# Altium schematic symbol library Connector.SchLib: 222 symbols (part 2 of 2)
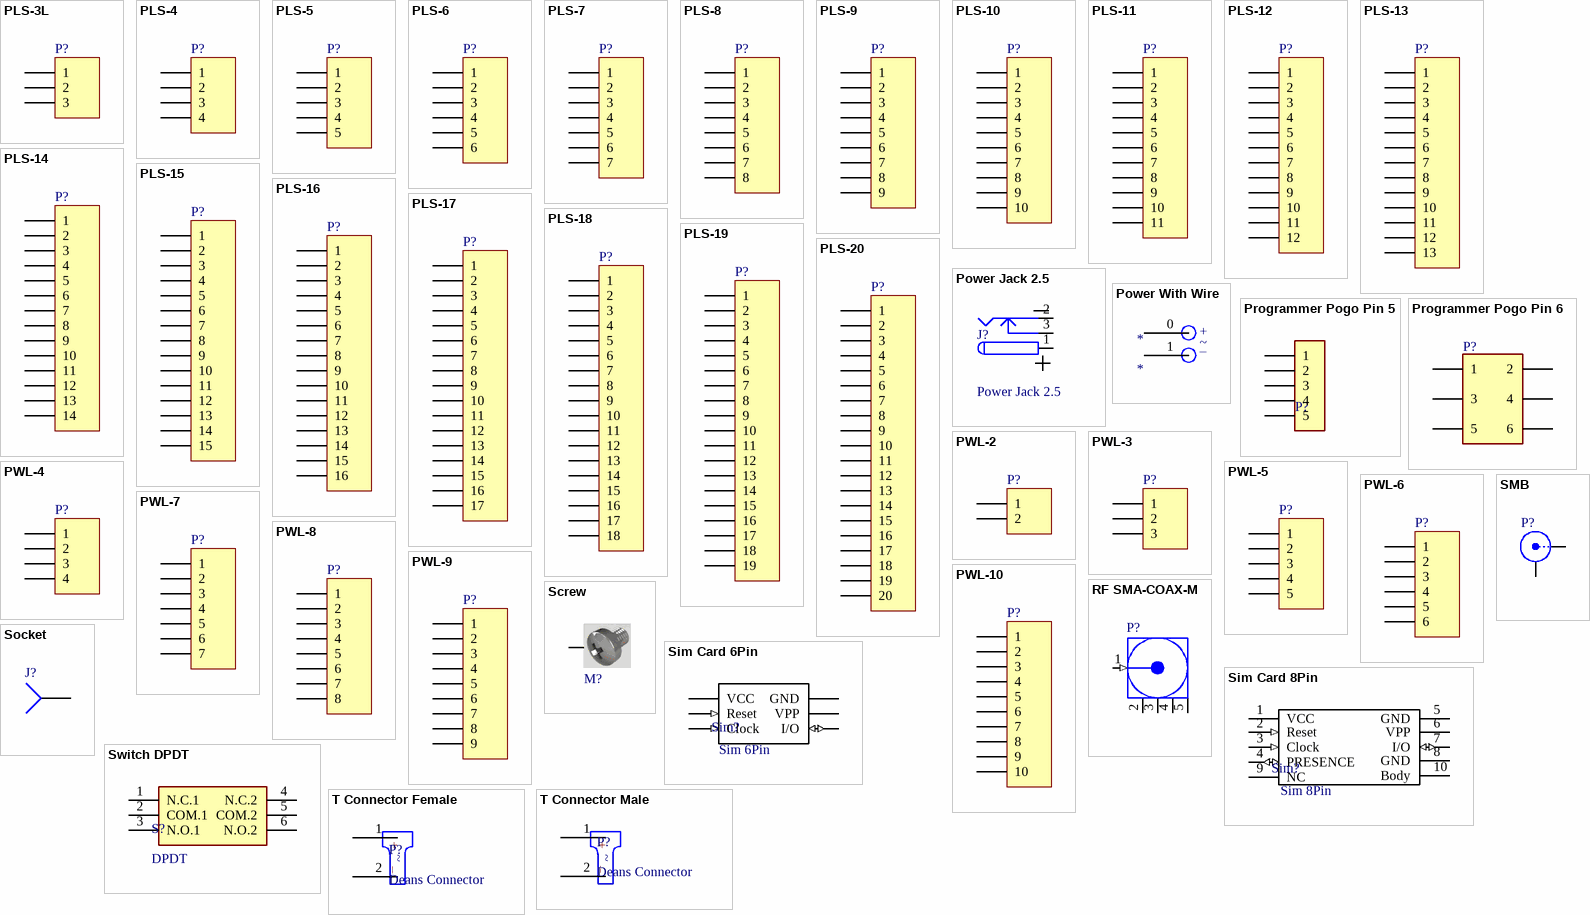
[diagram p6: symbols PLS-3L to T Connector Male]

## PLS-8
designator P?  (value not drawn)
Header, 8-Pin; LatestRevisionDate: 17-Jul-2002; LatestRevisionNote: Re-released for DXP Platform.; Publisher: Altium Limited
footprint PLS-8-3D (Connector; Header; 8 Position)
pins: 1, 2, 3, 4, 5, 6, 7, 8

## PLS-9
designator P?  (value not drawn)
Header, 9-Pin; LatestRevisionDate: 17-Jul-2002; LatestRevisionNote: Re-released for DXP Platform.; Publisher: Altium Limited
footprint PLS-9-3D (Connector; Header; 9 Position)
pins: 1, 2, 3, 4, 5, 6, 7, 8, 9

## PLS-10
designator P?  (value not drawn)
Header, 10-Pin; LatestRevisionDate: 17-Jul-2002; LatestRevisionNote: Re-released for DXP Platform.; Publisher: Altium Limited
footprint PLS-10-3D (Connector; Header; 10 Position)
pins: 1, 2, 3, 4, 5, 6, 7, 8, 9, 10

## PLS-11
designator P?  (value not drawn)
Header, 11-Pin; LatestRevisionDate: 17-Jul-2002; LatestRevisionNote: Re-released for DXP Platform.; Publisher: Altium Limited
footprint PLS-11-3D (Connector; Header; 11 Position)
pins: 1, 2, 3, 4, 5, 6, 7, 8, 9, 10, 11

## PLS-12
designator P?  (value not drawn)
Header, 12-Pin; LatestRevisionDate: 17-Jul-2002; LatestRevisionNote: Re-released for DXP Platform.; Publisher: Altium Limited
footprint PLS-12-3D (Connector; Header; 12 Position)
pins: 1, 2, 3, 4, 5, 6, 7, 8, 9, 10, 11, 12

## PLS-13
designator P?  (value not drawn)
Header, 13-Pin; LatestRevisionDate: 17-Jul-2002; LatestRevisionNote: Re-released for DXP Platform.; Publisher: Altium Limited
footprint PLS-13-3D (Connector; Header; 13 Position)
pins: 1, 2, 3, 4, 5, 6, 7, 8, 9, 10, 11, 12, 13

## PLS-14
designator P?  (value not drawn)
Header, 14-Pin; LatestRevisionDate: 17-Jul-2002; LatestRevisionNote: Re-released for DXP Platform.; Publisher: Altium Limited
footprint PLS-14-3D (Connector; Header; 14 Position)
pins: 1, 2, 3, 4, 5, 6, 7, 8, 9, 10, 11, 12, 13, 14

## PLS-15
designator P?  (value not drawn)
Header, 15-Pin; LatestRevisionDate: 17-Jul-2002; LatestRevisionNote: Re-released for DXP Platform.; Publisher: Altium Limited
footprint PLS-15-3D (Connector; Header; 15 Position)
pins: 1, 2, 3, 4, 5, 6, 7, 8, 9, 10, 11, 12, 13, 14, 15

## PLS-16
designator P?  (value not drawn)
Header, 16-Pin; LatestRevisionDate: 17-Jul-2002; LatestRevisionNote: Re-released for DXP Platform.; Publisher: Altium Limited
footprint PLS-16-3D (Connector; Header; 16 Position)
pins: 1, 2, 3, 4, 5, 6, 7, 8, 9, 10, 11, 12, 13, 14, 15, 16

## PLS-17
designator P?  (value not drawn)
Header, 17-Pin; LatestRevisionDate: 17-Jul-2002; LatestRevisionNote: Re-released for DXP Platform.; Publisher: Altium Limited
footprint PLS-17-3D (Connector; Header; 17 Position)
pins: 1, 2, 3, 4, 5, 6, 7, 8, 9, 10, 11, 12, 13, 14, 15, 16, 17

## PLS-18
designator P?  (value not drawn)
Header, 18-Pin; LatestRevisionDate: 17-Jul-2002; LatestRevisionNote: Re-released for DXP Platform.; Publisher: Altium Limited
footprint PLS-18-3D (Connector; Header; 18 Position)
pins: 1, 2, 3, 4, 5, 6, 7, 8, 9, 10, 11, 12, 13, 14, 15, 16, 17, 18

## PLS-19
designator P?  (value not drawn)
Header, 19-Pin; LatestRevisionDate: 17-Jul-2002; LatestRevisionNote: Re-released for DXP Platform.; Publisher: Altium Limited
footprint PLS-19-3D (Connector; Header; 19 Position)
pins: 1, 2, 3, 4, 5, 6, 7, 8, 9, 10, 11, 12, 13, 14, 15, 16, 17, 18, 19

## PLS-20
designator P?  (value not drawn)
Header, 20-Pin; LatestRevisionDate: 17-Jul-2002; LatestRevisionNote: Re-released for DXP Platform.; Publisher: Altium Limited
footprint PLS-20-3D (Connector; Header; 20 Position)
pins: 1, 2, 3, 4, 5, 6, 7, 8, 9, 10, 11, 12, 13, 14, 15, 16, 17, 18, 19, 20

## Power Jack 2.5
designator J?
Low Voltage Power Supply Connector; Published: 17-Dec-2003; DatasheetDocument: 09-May-2002; Publisher: Altium Limited; ComponentLink1Description: Manufacturer Link; ComponentLink1URL: http://domino.kycon.com/internet/Products.html
footprint Power Jack 2.5
pins: 1 (power), 2 (power), 3 (power)

## Power With Wire
designator *
2 Pad
footprint Power Wire Connected Big (High Current)
footprint Power Wire Connected Small (Low Current)
pins: 0, 1
text: +; ~; _

## Programmer Pogo Pin 5
designator P?  (value not drawn)  (no BOM)
footprint Programmer_pogopin-5
footprint Programmer_pogopin-5-3
pins: 1, 2, 3, 4, 5

## Programmer Pogo Pin 6
designator P?  (value not drawn)
footprint Programmer_pogopin-6
footprint Programmer_pogopin_Dip-6
pins: 1, 2, 3, 4, 5, 6

## PWL-2
designator P?  (value not drawn)
Power Terminal 2pin,Header, 2-Pin; LatestRevisionDate: 17-Jul-2002; LatestRevisionNote: Re-released for DXP Platform.; Publisher: Altium Limited
footprint PWL-2 (Connector; Header; 2 Position)
pins: 1, 2

## PWL-3
designator P?  (value not drawn)
Power Terminal 3pin,Header, 3-Pin; LatestRevisionDate: 17-Jul-2002; LatestRevisionNote: Re-released for DXP Platform.; Publisher: Altium Limited
footprint PWL-3 (Connector; Header; 3 Position)
pins: 1, 2, 3

## PWL-4
designator P?  (value not drawn)
Power Terminal 4pin,Header, 4-Pin; LatestRevisionDate: 17-Jul-2002; LatestRevisionNote: Re-released for DXP Platform.; Publisher: Altium Limited
footprint PWL-4 (Connector; Header; 4 Position)
pins: 1, 2, 3, 4

## PWL-5
designator P?  (value not drawn)
Power Terminal 5pin,Header, 5-Pin; LatestRevisionDate: 17-Jul-2002; LatestRevisionNote: Re-released for DXP Platform.; Publisher: Altium Limited
footprint PWL-5 (Connector; Header; 5 Position)
pins: 1, 2, 3, 4, 5

## PWL-6
designator P?  (value not drawn)
Power Terminal 6pin,Header, 6-Pin; LatestRevisionDate: 17-Jul-2002; LatestRevisionNote: Re-released for DXP Platform.; Publisher: Altium Limited
footprint PWL-6 (Connector; Header; 6 Position)
pins: 1, 2, 3, 4, 5, 6

## PWL-7
designator P?  (value not drawn)
Power Terminal 7pin,Header, 7-Pin; LatestRevisionDate: 17-Jul-2002; LatestRevisionNote: Re-released for DXP Platform.; Publisher: Altium Limited
footprint PWL-7 (Connector; Header; 7 Position)
pins: 1, 2, 3, 4, 5, 6, 7

## PWL-8
designator P?  (value not drawn)
Power Terminal 8pin,Header, 8-Pin; LatestRevisionDate: 17-Jul-2002; LatestRevisionNote: Re-released for DXP Platform.; Publisher: Altium Limited
footprint PWL-8 (Connector; Header; 8 Position)
pins: 1, 2, 3, 4, 5, 6, 7, 8

## PWL-9
designator P?  (value not drawn)
Power Terminal 9pin,Header, 9-Pin; LatestRevisionDate: 17-Jul-2002; LatestRevisionNote: Re-released for DXP Platform.; Publisher: Altium Limited
footprint PWL-9 (Connector; Header; 9 Position)
pins: 1, 2, 3, 4, 5, 6, 7, 8, 9

## PWL-10
designator P?  (value not drawn)
Power Terminal 10pin,Header, 10-Pin; LatestRevisionDate: 17-Jul-2002; LatestRevisionNote: Re-released for DXP Platform.; Publisher: Altium Limited
footprint PWL-10 (Connector; Header; 10 Position)
pins: 1, 2, 3, 4, 5, 6, 7, 8, 9, 10

## RF SMA-COAX-M
designator P?
RF Coaxial PCB Connector, MMCX; Thru-Hole, Vertical Mount Plug,  50 Ohm Impedance; PackageDocument: Rev. A, 16-Jun-1997; PCB_Layout: Complies with manufacturer's recommendation.; DrillSize: Corresponds to nominal value.; Published: 15-Jul-2004; LatestRevisionDate: 15-Jul-2004; LatestRevisionNote: Component Replaced.; DatasheetDocument: 30-May-2003; PackageReference: 908-21103; Publisher: Altium Limited; ComponentLink1Description: Manufacturer Link; ComponentLink1URL: http://www.amphenolrf.com/
footprint MMCX2.54-V5 (Connector; RF Coaxial, MMCX, Thru-Hole; 5 Position; Vertical)
footprint SMA Right
footprint SMA Stright
pins: 1 Signal (in) "Signal Pin", 2 GND (power), 3 GND (power), 4 GND (power), 5 GND (power)

## Screw
designator M?  (value not drawn)
Board Screw; VALUE: Screw
footprint Board Screw 3mm
footprint Board Screw No Silk
footprint Board Screw
footprint Board Screw No Silk & pad
pins: S

## Sim Card 6Pin
designator Sim?, comment Sim 6Pin
General_Plastice; Value: Sim 6Pin
footprint Sim6Pin
pins: CLK Clock (in), GND (power), IO I/O (io), RST Reset (in), VCC (power), VPP (power)

## Sim Card 8Pin
designator Sim?, comment Sim 8Pin
General_Automatic; Value: Sim 8Pin
footprint Sim8Pin
pins: 1 VCC (power), 2 Reset (in), 3 Clock (in), 4 PRESENCE (io), 5 GND (power), 6 VPP (power), 7 I/O (io), 8 GND (power), 9 NC (power), 10 Body (power)

## SMB
designator P?
SMB Straight Connector; LatestRevisionDate: 17-Jul-2002; LatestRevisionNote: Re-released for DXP Platform.; Publisher: Altium Limited
footprint SMB_V-RJ45 (Connector; SMB Straight)
signal-integrity model Connector
pins: 1 X, 2 Y

## Socket
designator J?
Socket; LatestRevisionDate: 17-Jul-2002; LatestRevisionNote: Re-released for DXP Platform.; Publisher: Altium Limited
footprint PIN1 (Connector; Socket)
signal-integrity model Connector
pins: 1

## Switch DPDT
designator S?, comment DPDT
PUSHBUTTON SWITCH DPDT ON-(OFF); Manufacturer_Name: C & K COMPONENTS; Manufacturer_Part_Number: PN21LENA03QE; Datasheet Link: https://www.ckswitches.com/media/1413/pn.pdf; Height: 9.8mm; Arrow Part Number: PN21LENA03QE; Arrow Price/Stock: https://www.arrow.com/en/products/pn21lena03qe/ck; Mouser Part Number: 611-PN21LENA03QE; Mouser Price/Stock: https://www.mouser.com/Search/Refine.aspx?Keyword=611-PN21LENA03QE; Value: DPDT
footprint DPDT PushButton
pins: 1 N.C.1, 2 COM.1, 3 N.O.1, 4 N.C.2, 5 COM.2, 6 N.O.2

## T Connector Female
designator P?, comment Deans Connector
20A
footprint Deans T Connector Female (30 A)
pins: 1, 2
text: ~; +; _

## T Connector Male
designator P?, comment Deans Connector
20A
footprint Deans T Connector Meal (30 A)
pins: 1, 2
text: ~; +; _

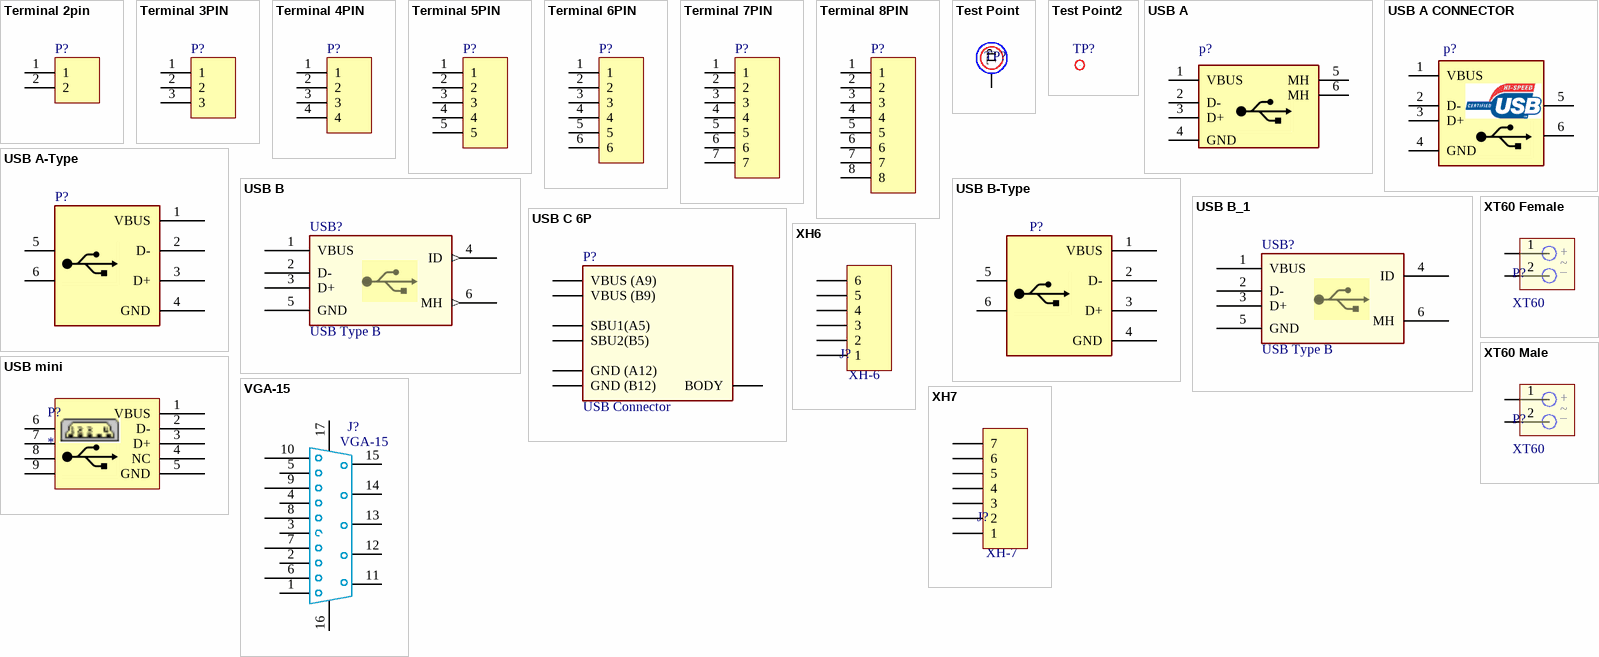
[diagram p5: symbols Terminal 2pin to XT60 Male]

## Terminal 2pin
designator P?
footprint Terminal 2pin
footprint Terminal 2pin-mini (Footprint not found)
pins: 1, 2

## Terminal 3PIN
designator P?
PartNumber: LM386N-1; Manufacturer: National Semiconductor; CompType: Audio IC; PackageTopMarking: NSUZXYTT*LM*386N-1; Published: 27-Nov-2008; DatasheetVersion: Aug-2000; PackageVersion: revG, May-2006; PackageReference: N08E; PackageDescription: MDIP, .365 x .250 x .130in, 8 Lead, .100in Pitch; RoHS: O; PinCount: 8; DigiKeyPartNumber: LM386N-1-ND; Code_JEDEC: MS-001-BA; ComponentLink1Description: LM386 Datasheet; ComponentLink1URL: http://www.national.com/ds/LM/LM386.pdf; ComponentLink2Description: LM386 Web Page; ComponentLink2URL: http://www.national.com/pf/LM/LM386.html; ComponentLink3Description: N08E Package Page; ComponentLink3URL: http://www.national.com/packaging/folders/n08e.html
footprint Terminal 3Pin
pins: 1 (power), 2, 3

## Terminal 4PIN
designator P?
PartNumber: LM386N-1; Manufacturer: National Semiconductor; CompType: Audio IC; PackageTopMarking: NSUZXYTT*LM*386N-1; Published: 27-Nov-2008; DatasheetVersion: Aug-2000; PackageVersion: revG, May-2006; PackageReference: N08E; PackageDescription: MDIP, .365 x .250 x .130in, 8 Lead, .100in Pitch; RoHS: O; PinCount: 8; DigiKeyPartNumber: LM386N-1-ND; Code_JEDEC: MS-001-BA; ComponentLink1Description: LM386 Datasheet; ComponentLink1URL: http://www.national.com/ds/LM/LM386.pdf; ComponentLink2Description: LM386 Web Page; ComponentLink2URL: http://www.national.com/pf/LM/LM386.html; ComponentLink3Description: N08E Package Page; ComponentLink3URL: http://www.national.com/packaging/folders/n08e.html
footprint Terminal 4Pin
pins: 1 (power), 2, 3, 4

## Terminal 5PIN
designator P?
PartNumber: LM386N-1; Manufacturer: National Semiconductor; CompType: Audio IC; PackageTopMarking: NSUZXYTT*LM*386N-1; Published: 27-Nov-2008; DatasheetVersion: Aug-2000; PackageVersion: revG, May-2006; PackageReference: N08E; PackageDescription: MDIP, .365 x .250 x .130in, 8 Lead, .100in Pitch; RoHS: O; PinCount: 8; DigiKeyPartNumber: LM386N-1-ND; Code_JEDEC: MS-001-BA; ComponentLink1Description: LM386 Datasheet; ComponentLink1URL: http://www.national.com/ds/LM/LM386.pdf; ComponentLink2Description: LM386 Web Page; ComponentLink2URL: http://www.national.com/pf/LM/LM386.html; ComponentLink3Description: N08E Package Page; ComponentLink3URL: http://www.national.com/packaging/folders/n08e.html
footprint Terminal 5Pin
pins: 1 (power), 2, 3, 4, 5

## Terminal 6PIN
designator P?
PartNumber: LM386N-1; Manufacturer: National Semiconductor; CompType: Audio IC; PackageTopMarking: NSUZXYTT*LM*386N-1; Published: 27-Nov-2008; DatasheetVersion: Aug-2000; PackageVersion: revG, May-2006; PackageReference: N08E; PackageDescription: MDIP, .365 x .250 x .130in, 8 Lead, .100in Pitch; RoHS: O; PinCount: 8; DigiKeyPartNumber: LM386N-1-ND; Code_JEDEC: MS-001-BA; ComponentLink1Description: LM386 Datasheet; ComponentLink1URL: http://www.national.com/ds/LM/LM386.pdf; ComponentLink2Description: LM386 Web Page; ComponentLink2URL: http://www.national.com/pf/LM/LM386.html; ComponentLink3Description: N08E Package Page; ComponentLink3URL: http://www.national.com/packaging/folders/n08e.html
footprint Terminal 6Pin
pins: 1 (power), 2, 3, 4, 5, 6

## Terminal 7PIN
designator P?
PartNumber: LM386N-1; Manufacturer: National Semiconductor; CompType: Audio IC; PackageTopMarking: NSUZXYTT*LM*386N-1; Published: 27-Nov-2008; DatasheetVersion: Aug-2000; PackageVersion: revG, May-2006; PackageReference: N08E; PackageDescription: MDIP, .365 x .250 x .130in, 8 Lead, .100in Pitch; RoHS: O; PinCount: 8; DigiKeyPartNumber: LM386N-1-ND; Code_JEDEC: MS-001-BA; ComponentLink1Description: LM386 Datasheet; ComponentLink1URL: http://www.national.com/ds/LM/LM386.pdf; ComponentLink2Description: LM386 Web Page; ComponentLink2URL: http://www.national.com/pf/LM/LM386.html; ComponentLink3Description: N08E Package Page; ComponentLink3URL: http://www.national.com/packaging/folders/n08e.html
footprint Terminal 7Pin
pins: 1 (power), 2, 3, 4, 5, 6, 7

## Terminal 8PIN
designator P?
PartNumber: LM386N-1; Manufacturer: National Semiconductor; CompType: Audio IC; PackageTopMarking: NSUZXYTT*LM*386N-1; Published: 27-Nov-2008; DatasheetVersion: Aug-2000; PackageVersion: revG, May-2006; PackageReference: N08E; PackageDescription: MDIP, .365 x .250 x .130in, 8 Lead, .100in Pitch; RoHS: O; PinCount: 8; DigiKeyPartNumber: LM386N-1-ND; Code_JEDEC: MS-001-BA; ComponentLink1Description: LM386 Datasheet; ComponentLink1URL: http://www.national.com/ds/LM/LM386.pdf; ComponentLink2Description: LM386 Web Page; ComponentLink2URL: http://www.national.com/pf/LM/LM386.html; ComponentLink3Description: N08E Package Page; ComponentLink3URL: http://www.national.com/packaging/folders/n08e.html
footprint Terminal 8Pin
pins: 1 (power), 2, 3, 4, 5, 6, 7, 8

## Test Point
designator TP?  (value not drawn)  (no BOM)
Test Point, variable footprint
footprint ROUND_SMD_D0.5_MM
footprint ROUND_SMD_D1.0_MM
footprint ROUND_SMD_D1.5_MM
footprint ROUND_SMD_D2.0_MM
footprint GND_TP
pins: 1 TP

## Test Point2
designator TP?, comment Test Point  (value not drawn)  (no BOM)
Test Point, variable footprint
footprint ROUND_SMD_D0.5_MM
footprint ROUND_SMD_D1.0_MM
footprint ROUND_SMD_D1.5_MM
footprint ROUND_SMD_D2.0_MM
pins: 1 TP

## USB A
designator p?, comment USB Connector  (value not drawn)
USB Connector Type A; Designer: ABBAS BASEREH; Max Current: 600mA; Mounting Technology: Surface Mount\Through-Hole; Category: Connector; Pin Count: 4-6; Publisher: ABBAS BASEREH; Status: Unreleased; ComponentLink1Description: Datasheet; ComponentLink2Description: Reference; Update: 1395-11-17
signal-integrity model Connector (USB B Type Connector)
footprint USB2.5-2H4C (Connector; USB1.1, Type A, Thru-Hole; 4 Position; Right Angle)
footprint USB2.5-2V4A (Connector; USB1.1, Type A, Thru-Hole; 4 Position; Vertical)
footprint USB/SM2.5-4H4 (Connector; USB1.1, Type A, SM; 4 Position; Right Angle)
footprint USB/SM2.5-4H4A (Connector; USB1.1, Type A, SM; 4 Position; Right Angle)
footprint USB2.0-4H4 (Connector; USB1.1, Type A, Thru-Hole; 4 Position; Right Angle)
footprint USB A TYPE Right Angle (Connector; USB1.1, Type A, SM; 4 Position; Right Angle DESIGNER ABBAS BASEREH)
footprint USB-A-SMD
pins: 1 VBUS (power), 2 D-, 3 D+, 4 GND (power), 5 MH (power), 6 MH (power)
3 alternate drawings of the same symbol

## USB A CONNECTOR
designator p?, comment USB Connector  (value not drawn)
USB Connector-A Type; Designer: ABBAS BASEREH; Max Current: 600mA; Mounting Technology: Surface Mount\Through-Hole; Category: Connector; Pin Count: 4-6; Publisher: ABBAS BASEREH; Status: Unreleased; ComponentLink1Description: Datasheet; ComponentLink2Description: Reference; Update: 1395-11-17
signal-integrity model Connector (USB B Type Connector)
footprint USB2.5-2H4C (Connector; USB1.1, Type A, Thru-Hole; 4 Position; Right Angle)
footprint USB2.5-2V4A (Connector; USB1.1, Type A, Thru-Hole; 4 Position; Vertical)
footprint USB/SM2.5-4H4 (Connector; USB1.1, Type A, SM; 4 Position; Right Angle)
footprint USB/SM2.5-4H4A (Connector; USB1.1, Type A, SM; 4 Position; Right Angle)
footprint USB2.0-4H4 (Connector; USB1.1, Type A, Thru-Hole; 4 Position; Right Angle)
footprint USB A TYPE Right Angle (Connector; USB1.1, Type A, SM; 4 Position; Right Angle DESIGNER ABBAS BASEREH)
pins: 1 VBUS (power), 2 D-, 3 D+, 4 GND (power), 5 MH (power), 6 MH (power)
3 alternate drawings of the same symbol

## USB A-Type
designator P?, comment USB Connector  (value not drawn)
USB Connector-A Type
footprint USB2.5-2V4A (Connector; USB1.1, Type A, Thru-Hole; 4 Position; Vertical)
footprint USB2.5-2H4C (Connector; USB1.1, Type A, Thru-Hole; 4 Position; Right Angle)
footprint USB2.5-4H8B (Connector; USB1.1, Type A, Thru-Hole; 4x4 Position; Right Angle)
pins: 1 VBUS (power), 2 D-, 3 D+, 4 GND (power), 5, 6

## USB B
designator USB?
USB Connentor Type B
footprint USB_AB_BM_SHS (USB Micro AB - Standard (Bottom mount), Shell SMT DESIGNER ABBAS BASEREH)
footprint USB_AB_receptacle (USB Micro AB - receptacle  DESIGNER ABBAS BASEREH)
pins: 1 VBUS (power), 2 D-, 3 D+, 4 ID (out), 5 GND (power), 6 MH (out)
text: USB Type B

## USB B-Type
designator P?, comment USB Connector  (value not drawn)
USB Connector-B Type; Adding Date: 10/26/2010
footprint USB2.5-2H4D (Connector; USB1.1, Type B, Thru-Hole; 4 Position; Right Angle)
footprint USB2.5-2H4E (Connector; USB1.1, Type B, Thru-Hole; 4 Position; Right Angle)
footprint USB2.5-2H4F (Connector; USB1.1, Type B, Thru-Hole; 4 Position; Right Angle)
footprint USB2.5-2H4G (Connector; USB1.1, Type B, Thru-Hole; 4 Position; Right Angle)
footprint USB2.5-2V4 (Connector; USB1.1, Type B, Thru-Hole; 4 Position; Vertical)
footprint USB2.5-4V4 (Connector; USB1.1, Type B, Thru-Hole; 4 Position; Vertical)
footprint USB/SM1.25-4H4 (Connector; USB1.1, Type B, SM; 4 Position; Right Angle)
pins: 1 VBUS (power), 2 D-, 3 D+, 4 GND (power), 5, 6

## USB B_1
designator USB?
USB Connentor Type B
footprint USB_AB_BM_SHS (USB Micro AB - Standard (Bottom mount), Shell SMT DESIGNER ABBAS BASEREH)
footprint USB_AB_receptacle (USB Micro AB - receptacle  DESIGNER ABBAS BASEREH)
pins: 1 VBUS (power), 2 D-, 3 D+, 4 ID, 5 GND (power), 6 MH
text: USB Type B

## USB C 6P
designator P?, comment USB Connector
USB Connector Type A; Designer: ABBAS BASEREH; Max Current: 600mA; Mounting Technology: Surface Mount\Through-Hole; Category: Connector; Pin Count: 4-6; Publisher: ABBAS BASEREH; Status: Unreleased; ComponentLink1Description: Datasheet; ComponentLink2Description: Reference; Update: 1395-11-17
footprint USB TYPE-C 6P(073) (SHOUHAN Right Angle 6P Female Type-C SMD USB Connectors)
pins: 0 BODY (power), A5 SBU1(A5) (power), A9 VBUS (A9) (power), A12 GND (A12) (power), B5 SBU2(B5) (power), B9 VBUS (B9) (power), B12 GND (B12) (power)
3 alternate drawings of the same symbol

## USB mini
designator P?
mini USB Connector
footprint Mini USB
footprint USB/SM0.8-6H5 (Connector; USB2.0, Type B, SM; 5 Position; Right Angle)
pins: 1 VBUS (power), 2 D-, 3 D+, 4 NC (power), 5 GND (power), 6, 7, 8, 9

## VGA-15
designator J?
VGA
footprint VGA-15-F
footprint VGA-15-M
pins: 1, 2, 3, 4, 5, 6, 7, 8, 9, 10, 11, 12, 13, 14, 15, 16, 17

## XH6
designator J?, comment XH-6
Value: XH-6
footprint XH-6-S (XH 6 Pin Straight)
pins: 1, 2, 3, 4, 5, 6

## XH7
designator J?, comment XH-7
Value: XH-7
footprint XH-7-S
pins: 1, 2, 3, 4, 5, 6, 7

## XT60 Female
designator P?, comment XT60
60A
footprint XT60 Female (XT60)
pins: 1, 2
text: +; _; ~

## XT60 Male
designator P?, comment XT60
60A
footprint XT60 Male (XT60)
pins: 1, 2
text: +; _; ~